# Altium schematic symbol library LTC2954.SchLib: 1 symbol
Pins are listed as number, name and electrical type; pins without a type are passive.

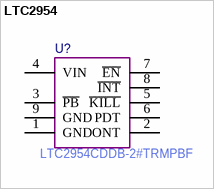
[diagram p0: symbol LTC2954]

## LTC2954
designator U?  Manufacturer Part Number: LTC2954CDDB-2#TRMPBF  (hidden comment: *)
pins: 1 GND, 2 ONT, 3 ~{PB}, 4 VIN, 5 ~{KILL}, 6 PDT, 7 ~{EN}, 8 ~{INT}, 9 GND